# Altium schematic symbol library Switchcraft_113B.SchLib: 1 symbol
Pins are listed as number, name and electrical type; pins without a type are passive.

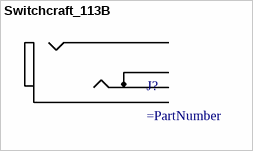
[diagram p0: symbol Switchcraft_113B]

## Switchcraft_113B
designator J?
pins: R, SLV, T, TS